# Altium footprint library PcbLib1.PcbLib: 5 footprints
Each footprint in its own frame and in the unit in brackets; x right, y up, seen from the top. Pads: shape width x height; smd on the part's side, far side on the other; paste and mask are expansions set on the pad; w line width, h text height; cw(c..) or ccw(c..) is an arc to the next point about the centre after c.
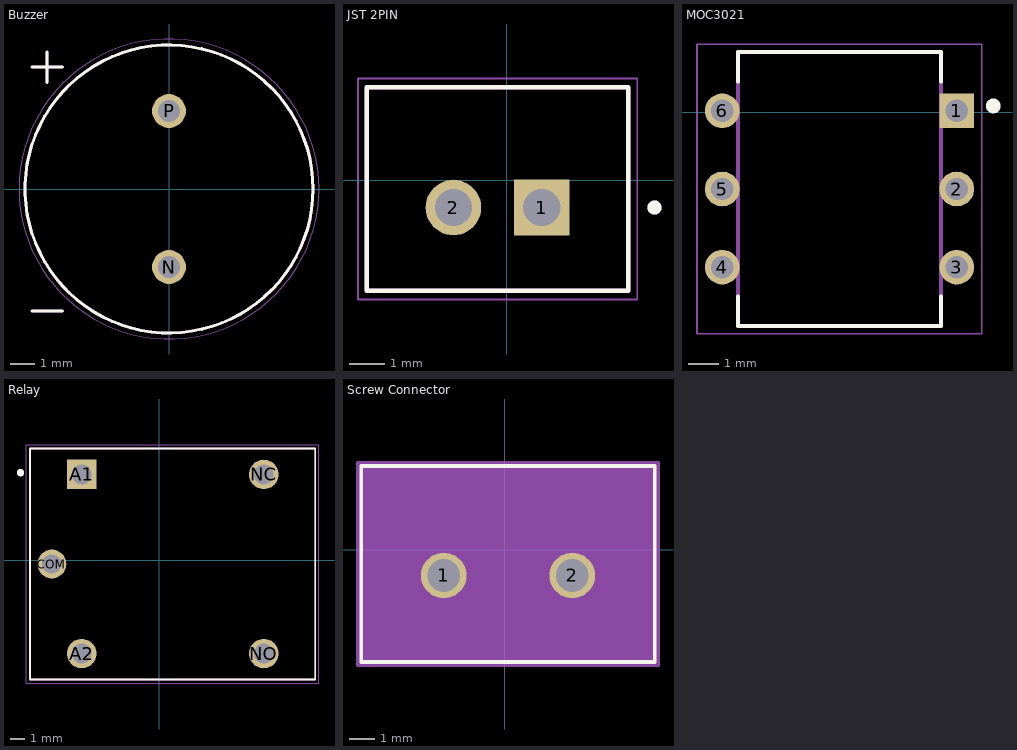
[diagram p0: the footprints below, top view; thin cyan lines are the x and y axes]

## Buzzer [mm]
pads (2):
  round 1.408 hole 0.9: N(0,-3.25) P(0,3.25)
Top Overlay:
  circle w0.127: c0,0 r6
  lines w0.127: -5.715,-5.08 -4.445,-5.08 ; -5.715,5.08 -4.445,5.08 ; -5.08,4.445 -5.08,5.715
Mechanical 13:
  circle w0.127: c0,0 r6
  lines w0.127: -5.715,-5.08 -4.445,-5.08 ; -5.715,5.08 -4.445,5.08 ; -5.08,4.445 -5.08,5.715
Mechanical 15:
  circle w0.05: c0,0 r6.25

## JST 2PIN [mm]
pads (2):
  rect 1.575x1.575 / inner round 1.575 / far side rect 1.575x1.575 hole 1.05: 1(0.996,-0.779)
  round 1.575 hole 1.05: 2(-1.504,-0.779)
Top Overlay:
  circle w0.2: c4.186,-0.779 r0.1
  lines w0.127: -3.954,-3.129 -3.954,2.621 3.446,2.621 3.446,-3.129 -3.954,-3.129
Mechanical 13:
  circle w0.2: c4.186,-0.779 r0.1
  lines w0.127: -3.954,-3.129 -3.954,2.621 3.446,2.621 3.446,-3.129 -3.954,-3.129
Mechanical 15:
  lines w0.05: -4.204,-3.379 3.696,-3.379 3.696,2.871 -4.204,2.871 -4.204,-3.379

## MOC3021 [mm]
pads (6):
  rect 1.13x1.13 / inner round 1.13 / far side rect 1.13x1.13 hole 0.73: 1(-2.873,0.043)
  round 1.13 hole 0.73: 2(-2.873,-2.497) 3(-2.873,-5.037) 4(-10.493,-5.037) 5(-10.493,-2.497) 6(-10.493,0.043)
Top Overlay:
  circle w0.24: c-1.683,0.203 r0.12
  lines w0.127: -9.983,-5.997 -9.983,-6.947 -3.383,-6.947 -3.383,-5.997 ; -9.983,1.003 -9.983,1.953 -3.383,1.953 -3.383,1.003
Mechanical 13:
  lines w0.127: -9.983,-6.947 -9.983,1.953 -3.383,1.953 -3.383,-6.947 -9.983,-6.947
Mechanical 15:
  lines w0.05: -11.313,-7.197 -11.313,2.203 -2.053,2.203 -2.053,-7.197 -11.313,-7.197
3D body "step_temp.STEP": height 3.3, standoff -5, extent -10.623,-6.147 -2.743,1.153

## Relay [mm]
pads (5):
  rect 1.98x1.98 / inner round 1.98 / far side rect 1.98x1.98 hole 1.32: A1(-5.211,5.746)
  round 1.98 hole 1.32: A2(-5.211,-6.254) NC(6.989,5.746) NO(6.989,-6.254)
  round 1.935 hole 1.29: COM(-7.211,-0.254)
Top Overlay:
  circle w0.3: c-9.311,5.865 r0.1
  lines w0.127: -8.661,-8.004 -8.661,7.496 10.439,7.496 10.439,-8.004 -8.661,-8.004
Mechanical 13:
  lines w0.127: -8.661,-8.004 -8.661,7.496 10.439,7.496 10.439,-8.004 -8.661,-8.004
Mechanical 15:
  lines w0.05: -8.911,-8.254 -8.911,7.746 10.689,7.746 10.689,-8.254 -8.911,-8.254
3D body "step_temp.STEP": height 15.8, standoff -3, extent -8.711,-8.054 10.489,7.546

## Screw Connector [mil]
pads (2):
  round 71 / inner round 60 / far side round 71 hole 51 paste-99999 mask+0: 1(-95,-40) 2(105,-40)
Top Overlay:
  lines w6: -223.5,-174.65 -223.5,130.35 233.5,130.35 233.5,-174.65 -223.5,-174.65
Mechanical 13:
  lines w1: -218.5,-169.65 -218.5,125.35 228.5,125.35 228.5,-169.65 -218.5,-169.65
Mechanical 15:
  region: 238.5,135.35 -228.5,135.35 -228.5,-179.65 238.5,-179.65
  lines w6: -228.5,-179.65 238.5,-179.65 238.5,135.35 -228.5,135.35 -228.5,-179.65